# Altium schematic symbol library sym-0022.SchLib: 1 symbol
Pins are listed as number, name and electrical type; pins without a type are passive.

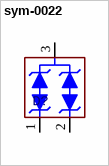
[diagram p0: symbol sym-0022]

## sym-0022
designator D?
SOT23-3 3-Pin TVS ESD
pins: 1, 2, 3
2 alternate drawings of the same symbol